# Altium footprint library Nhi.PcbLib: 26 footprints (part 1 of 2)
Each footprint in its own frame and in the unit in brackets; x right, y up, seen from the top. Pads: shape width x height; smd on the part's side, far side on the other; paste and mask are expansions set on the pad; w line width, h text height; cw(c..) or ccw(c..) is an arc to the next point about the centre after c.
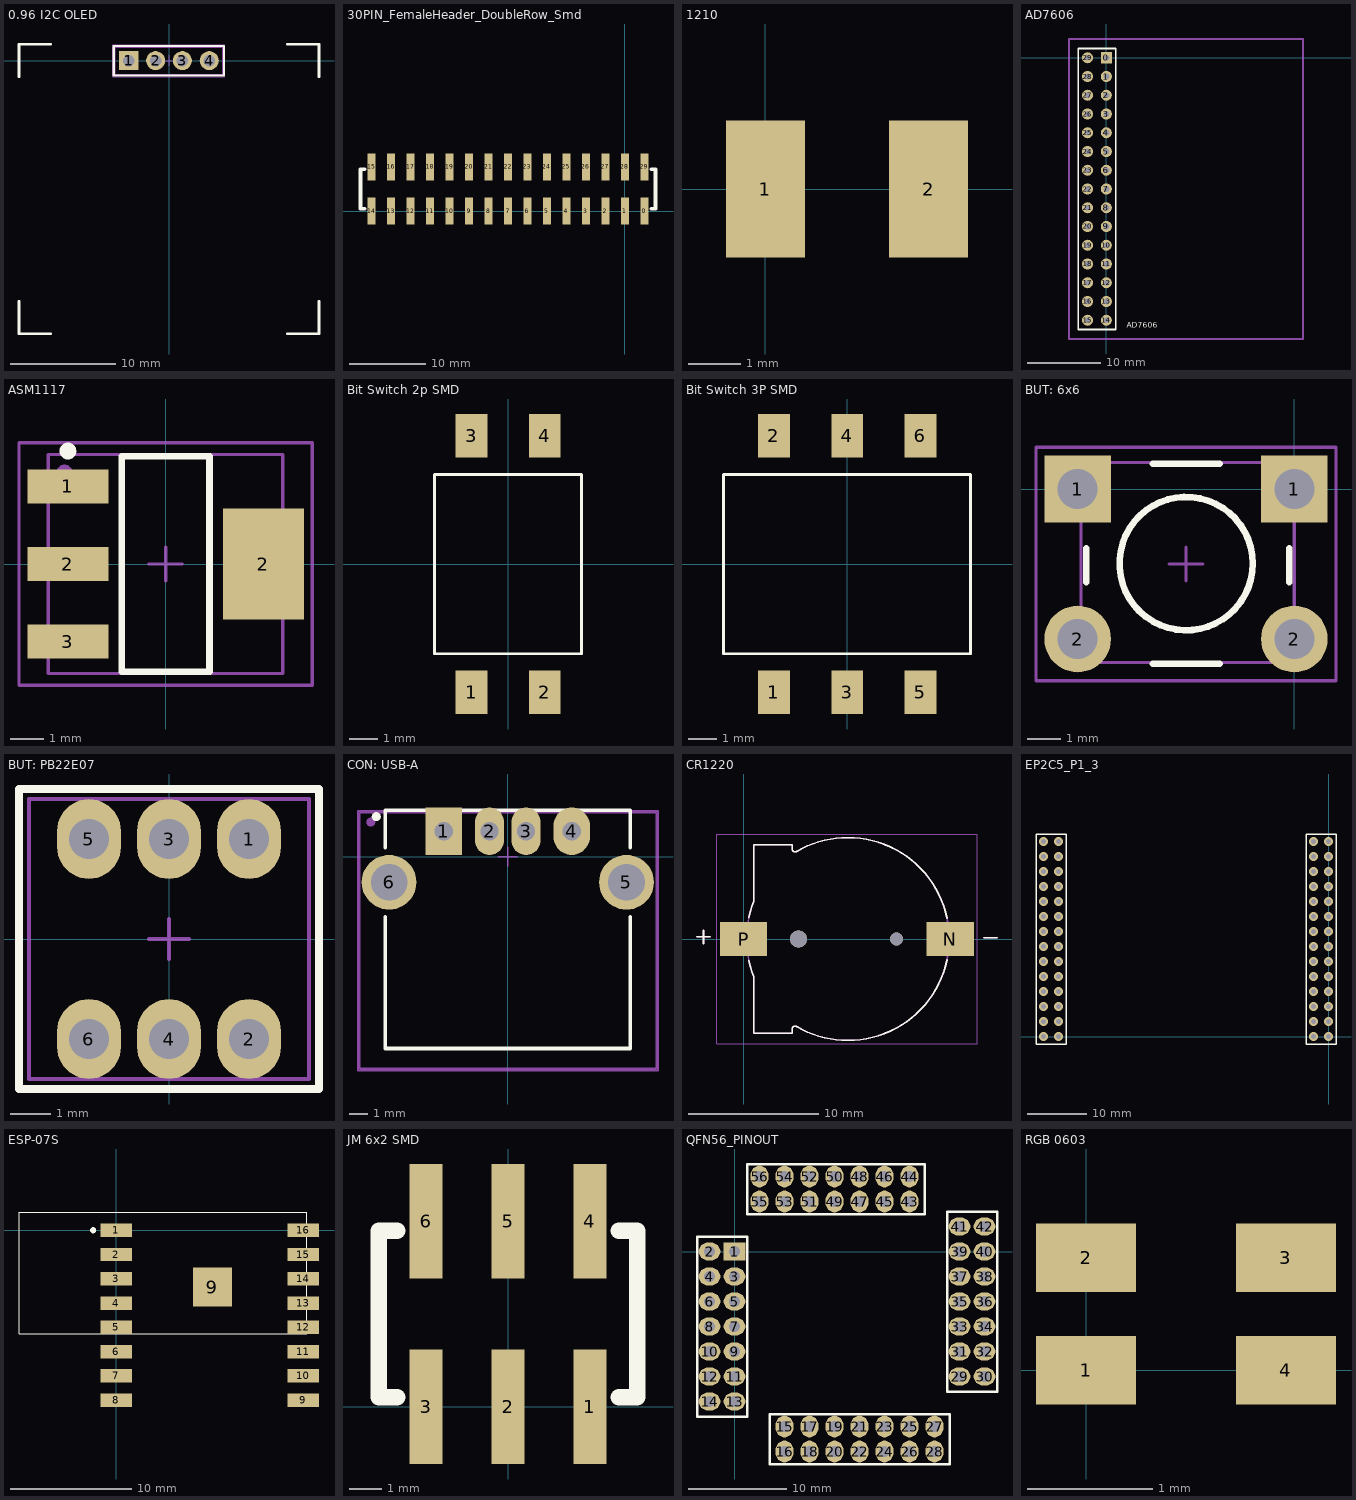
[diagram p0: the footprints below, top view; thin cyan lines are the x and y axes]

## 0.96 I2C OLED [mm]
height 10
pads (4):
  rect 1.8x1.8 hole 1.1: 1(-3.81,0)
  round 1.8 hole 1.1: 2(-1.27,0) 3(1.27,0) 4(3.81,0)
Top Overlay:
  lines w0.2: -5.23,-1.4 5.2,-1.4 5.2,1.4 -5.23,1.4 -5.23,-1.4
  lines w0.254: -14.2,-22.77 -14.2,-25.85 -11.2,-25.85 ; -14.2,-1.54 -14.2,1.54 -11.2,1.54 ; 11.2,-25.85 14.2,-25.85 14.2,-22.77 ; 11.2,1.54 14.2,1.54 14.2,-1.54
Mechanical 1:
  lines w0.1: -5.08,-1.27 5.08,-1.27 5.08,1.27 -5.08,1.27 -5.08,-1.27
Mechanical 15:
  lines w0.05: -5.334,-1.524 -5.334,1.524 5.3,1.524 5.3,-1.524 -5.334,-1.524
  lines w0.1: -0.5,0 0.5,0 ; 0,-0.5 0,0.5 ; 0.77,0 1.77,0 ; 1.27,-0.5 1.27,0.5
3D body "Pantalla OLED 0.96'' 128x64.stp": height 5.98, standoff -5.03, extent -14.2,-25.876 14.2,1.524

## 30PIN_FemaleHeader_DoubleRow_Smd [mm]
pads (30):
  rect 1.02x3.55 smd: 0(2.54,0) 1(0,0) 2(-2.54,0) 3(-5.08,0) 4(-7.62,0) 5(-10.16,0) 6(-12.7,0) 7(-15.24,0) 8(-17.78,0) 9(-20.32,0) 10(-22.86,0) 11(-25.4,0) 12(-27.94,0) 13(-30.48,0) 14(-33.02,0) 15(-33.02,5.75) 16(-30.48,5.75) 17(-27.94,5.75) 18(-25.4,5.75) 19(-22.86,5.75) 20(-20.32,5.75) 21(-17.78,5.75) 22(-15.24,5.75) 23(-12.7,5.75) 24(-10.16,5.75) 25(-7.62,5.75) 26(-5.08,5.75) 27(-2.54,5.75) 28(0,5.75) 29(2.54,5.75)
Top Overlay:
  lines w0.508: -33.913,0.3 -34.49,0.3 -34.49,5.45 -33.913,5.45 ; 3.433,0.3 4.01,0.3 4.01,5.45 3.433,5.45

## 1210 [mm]
pads (2):
  rect 1.5x2.6 smd: 1(0,0) 2(3.1,0)

## AD7606 [mm]
pads (30):
  rect 1.5x1.5 hole 0.8: 0(0,0)
  round 1.5 hole 0.8: 1(0,-2.54) 2(0,-5.08) 3(0,-7.62) 4(0,-10.16) 5(0,-12.7) 6(0,-15.24) 7(0,-17.78) 8(0,-20.32) 9(0,-22.86) 10(0,-25.4) 11(0,-27.94) 12(0,-30.48) 13(0,-33.02) 14(0,-35.56) 15(-2.54,-35.56) 16(-2.54,-33.02) 17(-2.54,-30.48) 18(-2.54,-27.94) 19(-2.54,-25.4) 20(-2.54,-22.86) 21(-2.54,-20.32) 22(-2.54,-17.78) 23(-2.54,-15.24) 24(-2.54,-12.7) 25(-2.54,-10.16) 26(-2.54,-7.62) 27(-2.54,-5.08) 28(-2.54,-2.54) 29(-2.54,0)
Top Overlay:
  lines w0.254: -3.81,-36.83 1.27,-36.83 1.27,1.27 -3.81,1.27 -3.81,-36.83
  text "AD7606" at 2.794,-36.576 h0.76
Mechanical 1:
  lines w0.254: -5.08,-38.1 26.67,-38.1 26.67,2.54 -5.08,2.54 -5.08,-38.1
3D body "30-Pin Header - Female - Double - 2.54mm.step": height 8.5, standoff -3, extent -3.75,-37.08 1.25,1.52

## ASM1117 [mm] "SOT223, 4-Leads, Body 6,50x7,00mm (avg), Pitch 2,30mm, IPC Medium Density"
height 1.8
pads (5):
  rect 2.4x1 smd: 1(-2.9,2.3) 2(-2.9,0) 3(-2.9,-2.3)
  rect 2.4x3.3 smd: 2(2.9,0)
  round 0.5 on Mech1: ""(-3,2.7)
Top Overlay:
  circle w0.25: c-2.9,3.35 r0.125
  lines w0.2: -1.3,-3.2 1.3,-3.2 1.3,3.2 -1.3,3.2 -1.3,-3.2
Mechanical 1:
  lines w0.1: -3.48,-3.25 -3.48,3.25 3.48,3.25 3.48,-3.25 -3.48,-3.25
Mechanical 15:
  lines w0.1: -0.5,0 0.5,0 ; 0,-0.5 0,0.5 ; -4.35,-3.6 4.35,-3.6 4.35,3.6 -4.35,3.6 -4.35,-3.6
3D body "SOT-223-3.step": height 1.65, standoff -0.03, extent -3.48,-3.25 3.48,3.25

## Bit Switch 2p SMD [mm]
pads (4):
  rect 1.1x1.5 smd: 1(-1.27,-4.45) 2(1.27,-4.45) 3(-1.27,4.45) 4(1.27,4.45)
Top Overlay:
  lines w0.1: -2.553,-3.113 2.54,-3.113 2.54,3.1 -2.553,3.1 -2.553,-3.113

## Bit Switch 3P SMD [mm]
pads (6):
  rect 1.1x1.5 smd: 1(-2.54,-4.45) 2(-2.54,4.45) 3(0,-4.45) 4(0,4.45) 5(2.54,-4.45) 6(2.54,4.45)
Top Overlay:
  lines w0.1: -4.293,-3.113 4.28,-3.113 4.28,3.1 -4.293,3.1 -4.293,-3.113

## BUT: 6x6 [mm] "Leaded Tactile Button 6x6"
height 5
pads (4):
  rect 2x2 hole 1.2: 1(-6.5,0) 1(0,0)
  round 2 hole 1.2: 2(-6.5,-4.5) 2(0,-4.5)
Top Overlay:
  circle w0.2: c-3.246,-2.238 r2
  lines w0.2: -6.246,-2.794 -6.246,-1.778 ; -4.246,-5.238 -2.246,-5.238 ; -4.246,0.762 -2.246,0.762 ; -0.15,-2.794 -0.15,-1.778
Mechanical 1:
  lines w0.1: -6.398,-5.207 0.002,-5.207 0.002,0.793 -6.398,0.793 -6.398,-5.207
Mechanical 15:
  lines w0.1: -3.75,-2.25 -2.75,-2.25 ; -3.25,-2.75 -3.25,-1.75 ; -7.75,-5.75 -7.75,1.25 1.25,1.25 1.25,-5.75 -7.75,-5.75
3D body "кнопка_тактовая_6х6х1.STEP": height 4.5, standoff -0.9, extent -6.398,-5.207 0.002,0.793

## BUT: PB22E07 [mm] "DPDT, 7x7"
height 12.3
pads (6):
  oval 1.6x2 hole 1: 1(2,2.5) 2(2,-2.5) 3(0,2.5) 4(0,-2.5) 5(-2,2.5) 6(-2,-2.5)
Top Overlay:
  lines w0.2: -3.75,-3.75 -3.75,3.75 3.75,3.75 3.75,-3.75 -3.75,-3.75
Mechanical 1:
  lines w0.1: -3.5,-3.5 -3.5,3.5 3.5,3.5 3.5,-3.5 -3.5,-3.5
Mechanical 15:
  lines w0.1: -0.5,0 0.5,0 ; 0,-0.5 0,0.5 ; -3.75,-3.75 -3.75,3.75 3.75,3.75 3.75,-3.75 -3.75,-3.75
3D body "PB22E07.STEP": height 12.6, standoff -2, extent -3.5,-3.5 3.5,3.5

## CON: USB-A [mm]
height 5
pads (8):
  rect 2x2.6 hole 1: 1(-3.5,1.397)
  oval 1.6x2.6 hole 1: 2(-1,1.397) 3(1,1.397)
  oval 2x2.6 hole 1: 4(3.5,1.397)
  round 3 hole 2: 5(6.5,-1.397) 6(-6.5,-1.397)
  round 0.5 on Mech1: ""(-7.5,1.9)
  round 0.5 on Top Overlay: ""(-7.2,2.2)
Top Overlay:
  lines w0.2: -6.7,-3.294 -6.7,-10.5 6.7,-10.5 6.7,-3.294 ; -6.7,0.5 -6.7,2.55 6.7,2.55 6.7,0.5
Mechanical 1:
  lines w0.1: -8.105,-11.593 -8.105,2.407 8.129,2.407 8.129,-11.593 -8.105,-11.593
Mechanical 15:
  lines w0.1: -0.5,0 0.5,0 ; 0,-0.5 0,0.5 ; -8.2,-11.7 -8.2,2.5 8.225,2.5 8.225,-11.7 -8.2,-11.7
3D body "USB_A_PCB.STEP": height 7.66, standoff -3.62, extent -8.105,-11.593 8.129,2.407

## CR1220 [mm]
pads (4):
  rect 3.6x2.6 smd: N(15.79,0) P(0,0)
  round 1.3 hole 1.3 unplated: ""(4.2,0)
  round 1 hole 1 unplated: ""(11.69,0)
Top Overlay:
  lines w0.127: -3.555,0.16 -2.555,0.16 ; -3.055,-0.34 -3.055,0.66 ; 0.4,-1.632 ccw(c7.696,-0.082) 0.78,-2.876 ; 0.4,1.632 cw(c7.696,0.082) 0.78,2.876 ; 0.77,-2.85 0.77,-7.2 3.72,-7.2 3.72,-6.88 ; 0.77,2.85 0.77,7.2 3.72,7.2 3.72,6.88 ; 3.72,-6.881 cw(c3.925,-6.87) 3.914,-6.665 cw(c3.932,-7.014) 4.096,-6.705 ; 3.72,6.881 ccw(c3.925,6.87) 3.914,6.665 ccw(c3.932,7.014) 4.096,6.705 ; 4.102,-6.709 ccw(c7.968,-0.013) 7.968,-7.745 ; 4.102,6.709 cw(c7.968,0.013) 7.968,7.745 ; 7.97,-7.745 ccw(c7.97,0) 15.546,-1.61 ; 7.97,7.745 cw(c7.97,0) 15.546,1.61 ; 18.365,0.09 19.365,0.09
Mechanical 13:
  lines w0.127: -3.555,0.16 -2.555,0.16 ; -3.055,-0.34 -3.055,0.66 ; 0.77,-2.85 0.77,-7.2 3.72,-7.2 3.72,-6.88 ; 0.77,2.85 0.77,7.2 3.72,7.2 3.72,6.88 ; 0.787,-2.893 cw(c7.949,0) 0.787,2.893 ; 3.72,-6.881 cw(c3.925,-6.87) 3.914,-6.665 cw(c3.932,-7.014) 4.096,-6.705 ; 3.72,6.881 ccw(c3.925,6.87) 3.914,6.665 ccw(c3.932,7.014) 4.096,6.705 ; 4.102,-6.709 ccw(c7.968,-0.013) 7.968,-7.745 ; 4.102,6.709 cw(c7.968,0.013) 7.968,7.745 ; 7.97,-7.745 ccw(c7.97,0) 7.97,7.745 ; 18.365,0.09 19.365,0.09
Mechanical 15:
  lines w0.05: -2.05,-8 -2.05,8 17.84,8 17.84,-8 -2.05,-8

## EP2C5_P1_3 [mm]
pads (56):
  round 1.5 hole 0.8: 3V3(-45.72,0) 3V3(-2.54,33.02) 3V3(0,33.02) 40(0,0) 41(-2.54,0) 42(0,2.54) 43(-2.54,2.54) 44(0,5.08) 45(-2.54,5.08) 47(0,7.62) 48(-2.54,7.62) 51(0,10.16) 52(-2.54,10.16) 53(0,12.7) 55(-2.54,12.7) 57(0,15.24) 58(-2.54,15.24) 59(0,17.78) 60(-2.54,17.78) 63(0,20.32) 64(-2.54,20.32) 65(0,22.86) 67(-2.54,22.86) 69(0,25.4) 70(-2.54,25.4) 71(0,27.94) 72(-2.54,27.94) 112(-48.26,30.48) 113(-45.72,30.48) 114(-48.26,27.94) 115(-45.72,27.94) 118(-48.26,25.4) 119(-45.72,25.4) 120(-48.26,22.86) 121(-45.72,22.86) 122(-48.26,20.32) 125(-45.72,20.32) 126(-48.26,17.78) 129(-45.72,17.78) 132(-48.26,15.24) 133(-45.72,15.24) 134(-48.26,12.7) 135(-45.72,12.7) 136(-48.26,10.16) 137(-45.72,10.16) 139(-48.26,7.62) 141(-45.72,7.62) 142(-48.26,5.08) 143(-45.72,5.08) 144(-48.26,2.54) GND(-48.26,0) GND(-48.26,33.02) GND(-45.72,2.54) GND(-45.72,33.02) GND(-2.54,30.48) GND(0,30.48)
Top Overlay:
  lines w0.254: -49.53,-1.27 -44.45,-1.27 -44.45,34.29 -49.53,34.29 -49.53,-1.27 ; -3.81,-1.27 1.27,-1.27 1.27,34.29 -3.81,34.29 -3.81,-1.27
3D body "14-Pin Header - Female - 2.54mm.step": height 3, standoff -5, extent -3.77,-1.52 -1.27,34.54
3D body "14-Pin Header - Female - 2.54mm.step": height 3, standoff -5, extent -1.23,-1.52 1.27,34.54
3D body "14-Pin Header - Female - 2.54mm.step": height 3, standoff -5, extent -49.49,-1.52 -46.99,34.54
3D body "14-Pin Header - Female - 2.54mm.step": height 3, standoff -5, extent -46.95,-1.52 -44.45,34.54

## ESP-07S [mm]
pads (17):
  rect 2.6x1.1 smd: 1(0,0) 2(0,-2) 3(0,-4) 4(0,-6) 5(0,-8) 6(0,-10) 7(0,-12) 8(0,-14) 9(15.4,-14) 10(15.4,-12) 11(15.4,-10) 12(15.4,-8) 13(15.4,-6) 14(15.4,-4) 15(15.4,-2) 16(15.4,0)
  rect 3.2x3.2 smd: 9(7.92,-4.683)
Top Overlay:
  circle w0.254: c-1.905,0 r0.127
  lines w0.1: -8.013,-8.513 15.7,-8.513 15.7,1.5 -8.013,1.5 -8.013,-8.513
3D body "esp-07s.x_t": height 3.28, standoff 0, extent -0.253,-15.476 15.747,1.524

## JM 6x2 SMD [mm]
pads (6):
  rect 1.02x3.55 smd: 1(2.54,0) 2(0,0) 3(-2.54,0) 4(2.54,5.75) 5(0,5.75) 6(-2.54,5.75)
Top Overlay:
  lines w0.508: -3.433,0.3 -4.01,0.3 -4.01,5.45 -3.433,5.45 ; 3.433,0.3 4.01,0.3 4.01,5.45 3.433,5.45

## QFN56_PINOUT [mm]
pads (56):
  rect 2.2x1.8 hole 1.1: 1(0,0)
  oval 2.2x1.8 hole 1.1: 2(-2.54,0) 3(0,-2.54) 4(-2.54,-2.54) 5(0,-5.08) 6(-2.54,-5.08) 7(0,-7.62) 8(-2.54,-7.62) 9(0,-10.16) 10(-2.54,-10.16) 11(0,-12.7) 12(-2.54,-12.7) 13(0,-15.24) 14(-2.54,-15.24) 29(22.86,-12.7) 30(25.4,-12.7) 31(22.86,-10.16) 32(25.4,-10.16) 33(22.86,-7.62) 34(25.4,-7.62) 35(22.86,-5.08) 36(25.4,-5.08) 37(22.86,-2.54) 38(25.4,-2.54) 39(22.86,0) 40(25.4,0) 41(22.86,2.54) 42(25.4,2.54)
  oval 1.8x2.2 hole 1.1: 15(5.08,-17.78) 16(5.08,-20.32) 17(7.62,-17.78) 18(7.62,-20.32) 19(10.16,-17.78) 20(10.16,-20.32) 21(12.7,-17.78) 22(12.7,-20.32) 23(15.24,-17.78) 24(15.24,-20.32) 25(17.78,-17.78) 26(17.78,-20.32) 27(20.32,-17.78) 28(20.32,-20.32) 43(17.78,5.08) 44(17.78,7.62) 45(15.24,5.08) 46(15.24,7.62) 47(12.7,5.08) 48(12.7,7.62) 49(10.16,5.08) 50(10.16,7.62) 51(7.62,5.08) 52(7.62,7.62) 53(5.08,5.08) 54(5.08,7.62) 55(2.54,5.08) 56(2.54,7.62)
Top Overlay:
  lines w0.254: -3.81,-16.764 1.27,-16.764 1.27,1.524 -3.81,1.524 -3.81,-16.764 ; 1.27,3.81 19.304,3.81 19.304,8.89 1.27,8.89 1.27,3.81 ; 3.556,-21.59 21.844,-21.59 21.844,-16.51 3.556,-16.51 3.556,-21.59 ; 21.59,-14.224 26.67,-14.224 26.67,4.064 21.59,4.064 21.59,-14.224
3D body "14-Pin Header - Female - Double - 2.54mm.step": height 8.5, standoff -3, extent -3.79,-16.76 1.21,1.52
3D body "14-Pin Header - Female - Double - 2.54mm.step": height 8.5, standoff -3, extent 3.56,-21.53 21.84,-16.53
3D body "14-Pin Header - Female - Double - 2.54mm.step": height 8.5, standoff -3, extent 1.02,3.87 19.3,8.87
3D body "14-Pin Header - Female - Double - 2.54mm.step": height 8.5, standoff -3, extent 21.65,-14.22 26.65,4.06

## RGB 0603 [mm]
pads (4):
  rect 0.8x0.55 smd: 1(0,0) 2(0,0.9) 3(1.6,0.9) 4(1.6,0)